# Altium footprint library Коммут элементы-mm.PcbLib: 50 footprints (part 4 of 4)
Each footprint in its own frame and in the unit in brackets; x right, y up, seen from the top. Pads: shape width x height; smd on the part's side, far side on the other; paste and mask are expansions set on the pad; w line width, h text height; cw(c..) or ccw(c..) is an arc to the next point about the centre after c.
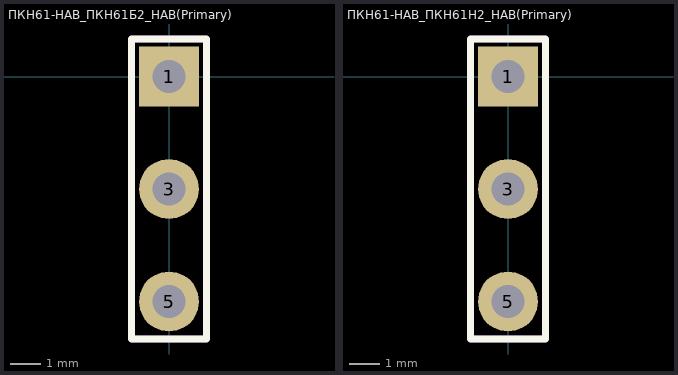
[diagram p3: the footprints below, top view; thin cyan lines are the x and y axes]

## ПКН61-НАВ_ПКН61Б2_НАВ(Primary) [mm]
pads (3):
  rect 2x2 hole 1.1: 1(0,0)
  round 2 hole 1.1: 3(0,-3.75) 5(0,-7.5)
Top Overlay:
  lines w0.25: -1.25,-8.75 -1.25,1.25 1.25,1.25 1.25,-8.75 -1.25,-8.75
Mechanical 1:
  lines w0.25: -1.25,-8.75 -1.25,1.25 1.25,1.25 1.25,-8.75 -1.25,-8.75

## ПКН61-НАВ_ПКН61Н2_НАВ(Primary) [mm]
pads (3):
  rect 2x2 hole 1.1: 1(0,0)
  round 2 hole 1.1: 3(0,-3.75) 5(0,-7.5)
Top Overlay:
  lines w0.25: -1.25,-8.75 -1.25,1.25 1.25,1.25 1.25,-8.75 -1.25,-8.75
Mechanical 1:
  lines w0.25: -1.25,-8.75 -1.25,1.25 1.25,1.25 1.25,-8.75 -1.25,-8.75